# Altium schematic symbol library Schlib1.SchLib: 3 symbols
Pins are listed as number, name and electrical type; pins without a type are passive.

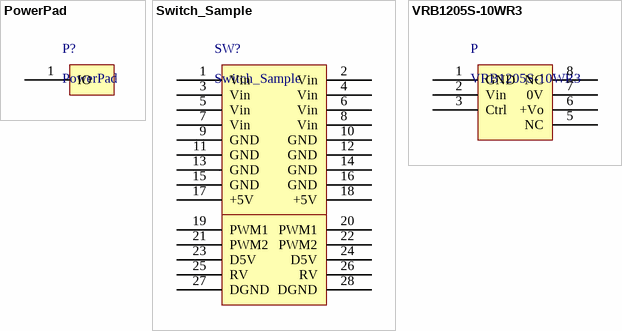
[diagram p0: symbols PowerPad to VRB1205S-10WR3]

## PowerPad
designator P?
pins: 1 IO

## Switch_Sample
designator SW?
pins: 1 Vin, 2 Vin, 3 Vin, 4 Vin, 5 Vin, 6 Vin, 7 Vin, 8 Vin, 9 GND, 10 GND, 11 GND, 12 GND, 13 GND, 14 GND, 15 GND, 16 GND, 17 +5V, 18 +5V, 19 PWM1, 20 PWM1, 21 PWM2, 22 PWM2, 23 D5V, 24 D5V, 25 RV, 26 RV, 27 DGND, 28 DGND

## VRB1205S-10WR3
designator P
SuppliersPartNumber: C970789
pins: 1 GND, 2 Vin, 3 Ctrl, 5 NC, 6 +Vo, 7 0V, 8 NC